# EAGLE library part MFC-OLD (library Connectors)
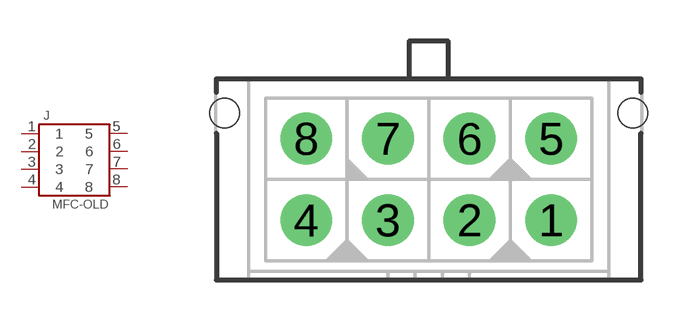
[diagram p10: symbol with the pads of MFC-OLD; footprint MFC-OLD]

Designator prefix J

## MFC-OLD  [MFC-OLD]
1  1
2  2
3  3
4  4
5  5
6  6
7  7
8  8

## Footprint MFC-OLD (pad centres in mm)
drill 1.1 pad 1.9: 1 4.5,-1.5; 2 1.5,-1.5; 3 -1.5,-1.5; 4 -4.5,-1.5; 5 4.5,1.5; 6 1.5,1.5; 7 -1.5,1.5; 8 -4.5,1.5
hole 1.1 at 7.5,2.44
hole 1.1 at -7.5,2.44